# Altium footprint library CRCW060312K0FKEA.PcbLib: 3 footprints
Each footprint in its own frame and in the unit in brackets; x right, y up, seen from the top. Pads: shape width x height; smd on the part's side, far side on the other; paste and mask are expansions set on the pad; w line width, h text height; cw(c..) or ccw(c..) is an arc to the next point about the centre after c.
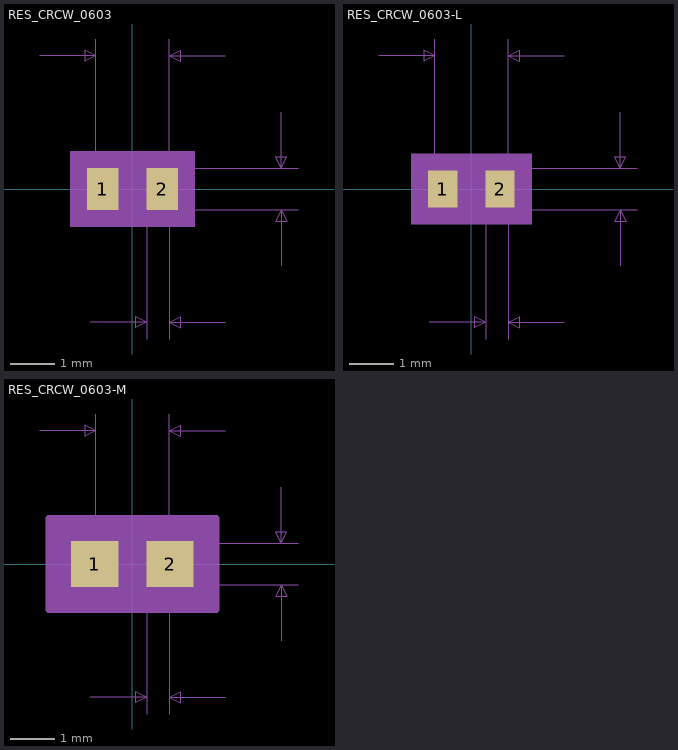
[diagram p0: the footprints below, top view; thin cyan lines are the x and y axes]

## RES_CRCW_0603 [mil]
pads (2):
  rect 28x37 smd: 1(-26.5,0) 2(26.5,0)
Mechanical 5:
  region: 55.5,-33.5 -55.5,-33.5 -55.5,33.5 55.5,33.5
Mechanical 7:
  lines w1: -82.5,118.5 -32.5,118.5 ; -37.5,-118.5 12.5,-118.5 ; -32.5,0 -32.5,133.5 ; 0,-18.5 147.5,-18.5 ; 0,18.5 147.5,18.5 ; 12.5,-133.5 12.5,0 ; 32.5,-133.5 32.5,0 32.5,133.5 ; 82.5,-118.5 32.5,-118.5 ; 82.5,118.5 32.5,118.5 ; 132.5,-68.5 132.5,-18.5 ; 132.5,68.5 132.5,18.5 ; -32.5,118.5 -42.5,123.5 -42.5,113.5 -32.5,118.5 ; 12.5,-118.5 2.5,-113.5 2.5,-123.5 12.5,-118.5 ; 32.5,-118.5 42.5,-113.5 42.5,-123.5 32.5,-118.5 ; 32.5,118.5 42.5,123.5 42.5,113.5 32.5,118.5 ; 132.5,-18.5 127.5,-28.5 137.5,-28.5 132.5,-18.5 ; 132.5,18.5 127.5,28.5 137.5,28.5 132.5,18.5
  text "Default Padstyle: RX28Y37D0T" at -350,-288.5 h50
  text "Alternate 1 Padstyle: OX60Y90D30P" at -412.5,-388.5 h50
  text "Alternate 2 Padstyle: OX90Y60D30P" at -412.5,-488.5 h50
  text "0.037in/0.94mm" at 152.5,-12.5 h25
  text "0.065in/1.651mm" at -93.75,138.5 h25
  text "0.02in/0.508mm" at -65,-163.5 h25
Mechanical 13:
  lines w1: -32.5,-18.5 -32.5,18.5 ; -32.5,-18.5 -12.5,-18.5 -12.5,18.5 -32.5,18.5 ; -32.5,-18.5 32.5,-18.5 ; -32.5,-18.5 -32.5,18.5 ; -32.5,18.5 32.5,18.5 ; 32.5,-18.5 12.5,-18.5 12.5,18.5 32.5,18.5 ; 32.5,-18.5 32.5,18.5 ; 32.5,-18.5 32.5,18.5
Mechanical 15:
  region: 50.5,-28.5 -50.5,-28.5 -50.5,28.5 50.5,28.5
  lines w6: -50.5,-28.5 -50.5,28.5 50.5,28.5 50.5,-28.5 -50.5,-28.5
3D body: height 10, standoff 0, extent 0,0 10,10

## RES_CRCW_0603-L [mil]
pads (2):
  rect 26x33 smd paste+0 mask+0: 1(-25.5,0) 2(25.5,0)
Mechanical 5:
  region: 53.5,-31.5 -53.5,-31.5 -53.5,31.5 53.5,31.5
Mechanical 7:
  lines w1: -82.5,118.5 -32.5,118.5 ; -37.5,-118.5 12.5,-118.5 ; -32.5,0 -32.5,133.5 ; 0,-18.5 147.5,-18.5 ; 0,18.5 147.5,18.5 ; 12.5,-133.5 12.5,0 ; 32.5,-133.5 32.5,0 32.5,133.5 ; 82.5,-118.5 32.5,-118.5 ; 82.5,118.5 32.5,118.5 ; 132.5,-68.5 132.5,-18.5 ; 132.5,68.5 132.5,18.5 ; -32.5,118.5 -42.5,123.5 -42.5,113.5 -32.5,118.5 ; 12.5,-118.5 2.5,-113.5 2.5,-123.5 12.5,-118.5 ; 32.5,-118.5 42.5,-113.5 42.5,-123.5 32.5,-118.5 ; 32.5,118.5 42.5,123.5 42.5,113.5 32.5,118.5 ; 132.5,-18.5 127.5,-28.5 137.5,-28.5 132.5,-18.5 ; 132.5,18.5 127.5,28.5 137.5,28.5 132.5,18.5
  text "Default Padstyle: RX26Y33D0T" at -350,-286.5 h50
  text "Alternate 1 Padstyle: OX60Y90D30P" at -412.5,-386.5 h50
  text "Alternate 2 Padstyle: OX90Y60D30P" at -412.5,-486.5 h50
  text "0.037in/0.94mm" at 152.5,-12.5 h25
  text "0.065in/1.651mm" at -93.75,138.5 h25
  text "0.02in/0.508mm" at -65,-163.5 h25
Mechanical 13:
  lines w1: -32.5,-18.5 -32.5,18.5 ; -32.5,-18.5 -12.5,-18.5 -12.5,18.5 -32.5,18.5 ; -32.5,-18.5 32.5,-18.5 ; -32.5,-18.5 -32.5,18.5 ; -32.5,18.5 32.5,18.5 ; 32.5,-18.5 12.5,-18.5 12.5,18.5 32.5,18.5 ; 32.5,-18.5 32.5,18.5 ; 32.5,-18.5 32.5,18.5
Mechanical 15:
  region: 42.5,-20.5 -42.5,-20.5 -42.5,20.5 42.5,20.5
  lines w6: -42.5,-20.5 -42.5,20.5 42.5,20.5 42.5,-20.5 -42.5,-20.5
3D body: height 10, standoff 0, extent 0,0 10,10

## RES_CRCW_0603-M [mil]
pads (2):
  rect 42x41 smd paste+0 mask+0: 1(-33.5,0) 2(33.5,0)
Mechanical 5:
  region: 69.5,-35.5 -69.5,-35.5 -69.5,35.5 69.5,35.5
Mechanical 7:
  lines w1: -82.5,118.5 -32.5,118.5 ; -37.5,-118.5 12.5,-118.5 ; -32.5,0 -32.5,133.5 ; 0,-18.5 147.5,-18.5 ; 0,18.5 147.5,18.5 ; 12.5,-133.5 12.5,0 ; 32.5,-133.5 32.5,0 32.5,133.5 ; 82.5,-118.5 32.5,-118.5 ; 82.5,118.5 32.5,118.5 ; 132.5,-68.5 132.5,-18.5 ; 132.5,68.5 132.5,18.5 ; -32.5,118.5 -42.5,123.5 -42.5,113.5 -32.5,118.5 ; 12.5,-118.5 2.5,-113.5 2.5,-123.5 12.5,-118.5 ; 32.5,-118.5 42.5,-113.5 42.5,-123.5 32.5,-118.5 ; 32.5,118.5 42.5,123.5 42.5,113.5 32.5,118.5 ; 132.5,-18.5 127.5,-28.5 137.5,-28.5 132.5,-18.5 ; 132.5,18.5 127.5,28.5 137.5,28.5 132.5,18.5
  text "Default Padstyle: RX42Y41D0T" at -350,-290.5 h50
  text "Alternate 1 Padstyle: OX60Y90D30P" at -412.5,-390.5 h50
  text "Alternate 2 Padstyle: OX90Y60D30P" at -412.5,-490.5 h50
  text "0.037in/0.94mm" at 152.5,-12.5 h25
  text "0.065in/1.651mm" at -93.75,138.5 h25
  text "0.02in/0.508mm" at -65,-163.5 h25
Mechanical 13:
  lines w1: -32.5,-18.5 -32.5,18.5 ; -32.5,-18.5 -12.5,-18.5 -12.5,18.5 -32.5,18.5 ; -32.5,-18.5 32.5,-18.5 ; -32.5,-18.5 -32.5,18.5 ; -32.5,18.5 32.5,18.5 ; 32.5,-18.5 12.5,-18.5 12.5,18.5 32.5,18.5 ; 32.5,-18.5 32.5,18.5 ; 32.5,-18.5 32.5,18.5
Mechanical 15:
  region: 74.5,-40.5 -74.5,-40.5 -74.5,40.5 74.5,40.5
  lines w6: -74.5,-40.5 -74.5,40.5 74.5,40.5 74.5,-40.5 -74.5,-40.5
3D body: height 10, standoff 0, extent 0,0 10,10